# EAGLE library part X1 (library Boe-Bot)
PIN HEADER
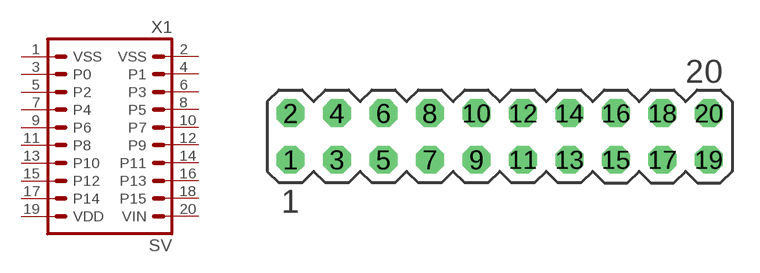
[diagram p0: symbol with the pads of MA10-2; footprint MA10-2]

Designator prefix SV

## X1  [MA10-2]
1  VSS  pas
2  VSS  pas
3  P0  pas
4  P1  pas
5  P2  pas
6  P3  pas
7  P4  pas
8  P5  pas
9  P6  pas
10  P7  pas
11  P8  pas
12  P9  pas
13  P10  pas
14  P11  pas
15  P12  pas
16  P13  pas
17  P14  pas
18  P15  pas
19  VDD  pas
20  VIN  pas

## Footprint MA10-2 (pad centres in mm)
PIN HEADER
drill 1.016 octagon: 1 -11.43,-1.27; 2 -11.43,1.27; 3 -8.89,-1.27; 4 -8.89,1.27; 5 -6.35,-1.27; 6 -6.35,1.27; 7 -3.81,-1.27; 8 -3.81,1.27; 9 -1.27,-1.27; 10 -1.27,1.27; 11 1.27,-1.27; 12 1.27,1.27; 13 3.81,-1.27; 14 3.81,1.27; 15 6.35,-1.27; 16 6.35,1.27; 17 8.89,-1.27; 18 8.89,1.27; 19 11.43,-1.27; 20 11.43,1.27